# Altium schematic symbol library Header_TE_Connectivity_1586041-8_8POS.SchLib: 1 symbol
Pins are listed as number, name and electrical type; pins without a type are passive.

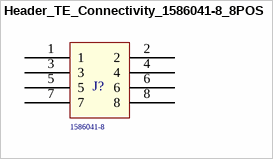
[diagram p0: symbol Header_TE_Connectivity_1586041-8_8POS]

## Header_TE_Connectivity_1586041-8_8POS
designator J?  Series: 1586041-8  (hidden comment: Header_TE_Connectivity_1586041-8_8POS)
Headers & Wire Housings RA HDR W/O PEGS 8P; Supplier Part Number 1: 571-15860418; Supplier 1: Mouser
footprint Header_TE_Connectivity_1586041-8_8POS
pins: 1, 2, 3, 4, 5, 6, 7, 8